# Altium footprint library SOT-223-4.PcbLib: 1 footprints
Each footprint in its own frame and in the unit in brackets; x right, y up, seen from the top. Pads: shape width x height; smd on the part's side, far side on the other; paste and mask are expansions set on the pad; w line width, h text height; cw(c..) or ccw(c..) is an arc to the next point about the centre after c.
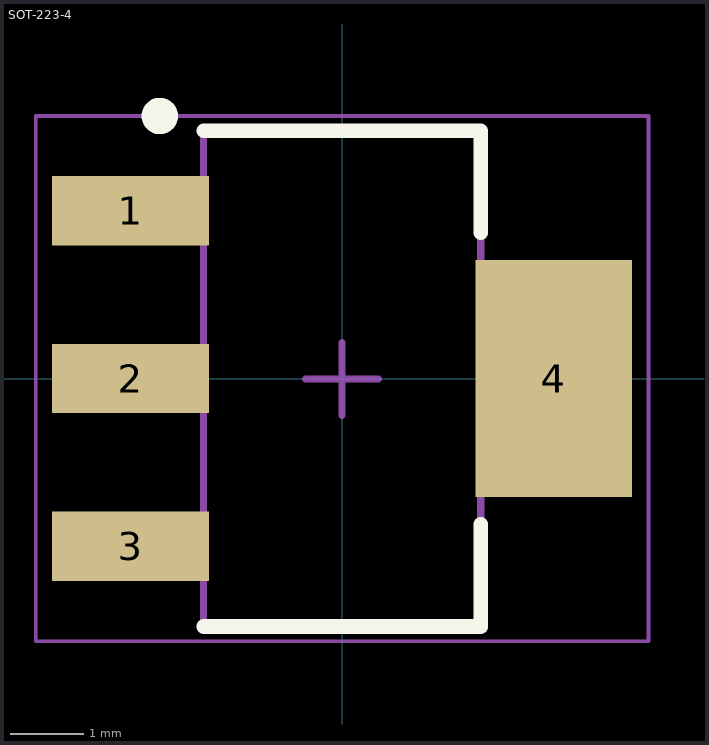
[diagram p0: the footprint, top view; thin cyan lines are the x and y axes]

## SOT-223-4 [mm]
pads (4):
  rect 2.15x0.95 smd: 1(-2.9,2.3) 2(-2.9,0) 3(-2.9,-2.3)
  rect 2.15x3.25 smd: 4(2.9,0)
Top Overlay:
  circle w0.25: c-2.5,3.6 r0.125
  lines w0.2: -1.9,-3.4 0.5,-3.4 1.9,-3.4 1.9,-2 ; -1.9,3.4 1.9,3.4 ; 1.9,2 1.9,3.4 ; 1.9,3.4 1.9,3.4
Mechanical 13:
  lines w0.1: -1.9,-3.4 -1.9,3.4 1.9,3.4 1.9,-3.4 -1.9,-3.4
Mechanical 15:
  lines w0.05: -4.2,-3.6 -4.2,3.6 4.2,3.6 4.2,-3.6 -4.2,-3.6
  lines w0.1: -0.503,-0.005 0.497,-0.005 ; -0.003,-0.505 -0.003,0.495
3D body: height 1.1, standoff 0.1, extent -1.9,-3.4 1.9,3.4